# Altium schematic symbol library MDA_altium_common.SchLib: 1 symbol
Pins are listed as number, name and electrical type; pins without a type are passive.

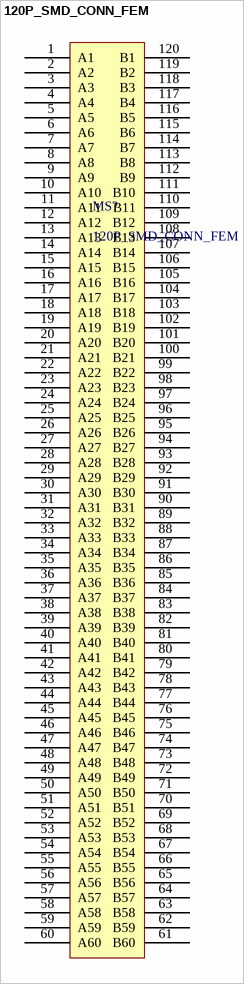
[diagram p0: symbol 120P_SMD_CONN_FEM]

## 120P_SMD_CONN_FEM
designator MS?
Main Stack Connector, Female; Part Number: FX2-120P-1.27SV(71)
footprint FX2-120P-1.27SV
pins: 1 A1, 2 A2, 3 A3, 4 A4, 5 A5, 6 A6, 7 A7, 8 A8, 9 A9, 10 A10, 11 A11, 12 A12, 13 A13, 14 A14, 15 A15, 16 A16, 17 A17, 18 A18, 19 A19, 20 A20, 21 A21, 22 A22, 23 A23, 24 A24, 25 A25, 26 A26, 27 A27, 28 A28, 29 A29, 30 A30, 31 A31, 32 A32, 33 A33, 34 A34, 35 A35, 36 A36, 37 A37, 38 A38, 39 A39, 40 A40, 41 A41, 42 A42, 43 A43, 44 A44, 45 A45, 46 A46, 47 A47, 48 A48, 49 A49, 50 A50, 51 A51, 52 A52, 53 A53, 54 A54, 55 A55, 56 A56, 57 A57, 58 A58, 59 A59, 60 A60, 61 B60, 62 B59, 63 B58, 64 B57, 65 B56, 66 B55, 67 B54, 68 B53, 69 B52, 70 B51, 71 B50, 72 B49, 73 B48, 74 B47, 75 B46, 76 B45, 77 B44, 78 B43, 79 B42, 80 B41, 81 B40, 82 B39, 83 B38, 84 B37, 85 B36, 86 B35, 87 B34, 88 B33, 89 B32, 90 B31, 91 B30, 92 B29, 93 B28, 94 B27, 95 B26, 96 B25, 97 B24, 98 B23, 99 B22, 100 B21, 101 B20, 102 B19, 103 B18, 104 B17, 105 B16, 106 B15, 107 B14, 108 B13, 109 B12, 110 B11, 111 B10, 112 B9, 113 B8, 114 B7, 115 B6, 116 B5, 117 B4, 118 B3, 119 B2, 120 B1